# Altium footprint library BLE.PcbLib: 57 footprints (part 3 of 4)
Each footprint in its own frame and in the unit in brackets; x right, y up, seen from the top. Pads: shape width x height; smd on the part's side, far side on the other; paste and mask are expansions set on the pad; w line width, h text height; cw(c..) or ccw(c..) is an arc to the next point about the centre after c.
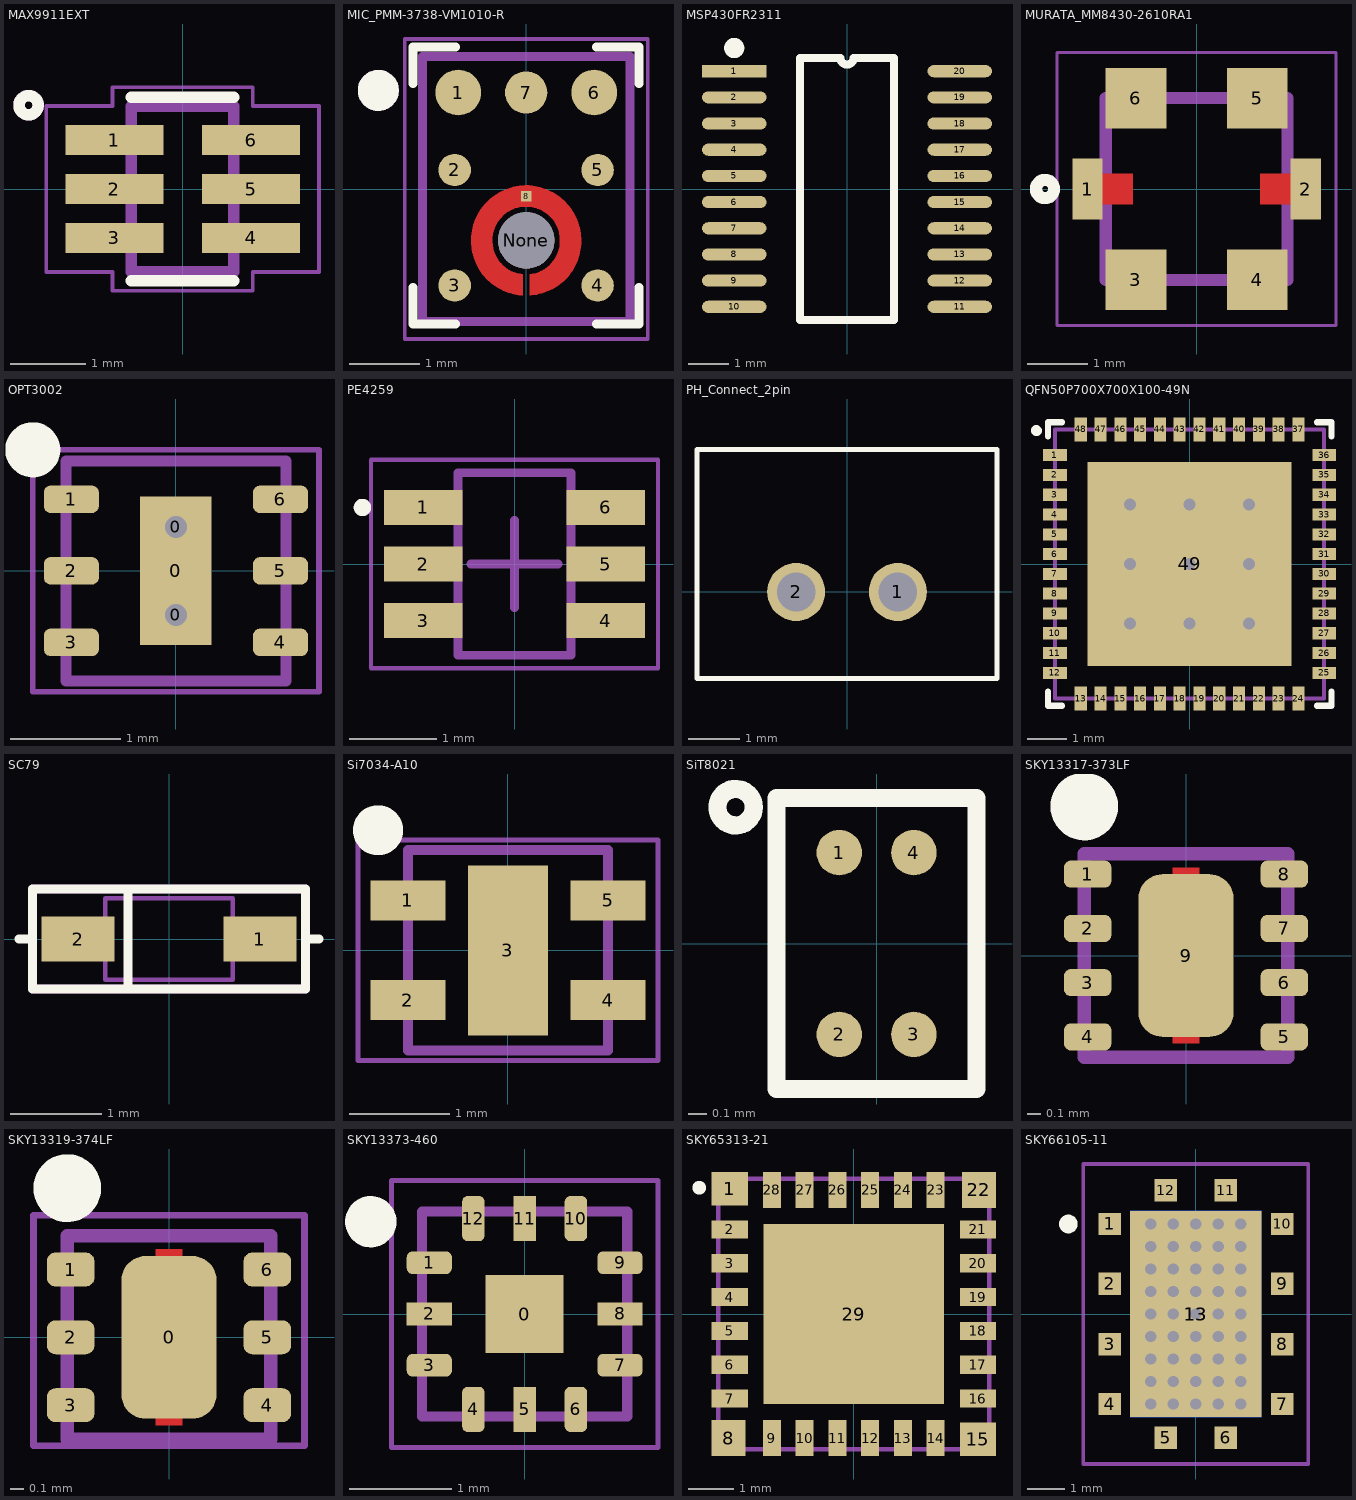
[diagram p2: the footprints below, top view; thin cyan lines are the x and y axes]

## MAX9911EXT [mm]
pads (6):
  rect 1.3x0.4 smd: 1(-0.905,0.65) 2(-0.905,0) 3(-0.905,-0.65) 4(0.91,-0.65) 5(0.91,0) 6(0.91,0.65)
Top Overlay:
  lines w0.152: -0.68,-1.219 0.68,-1.219 ; -0.68,1.219 0.68,1.219 ; -2.044,0.985 ccw(c-2.044,1.112) -2.044,1.239 ccw(c-2.044,1.112) -2.044,0.985
Mechanical 13:
  lines w0.152: -2.044,0.985 ccw(c-2.044,1.112) -2.044,1.239 ; -2.044,0.985 cw(c-2.044,1.112) -2.044,1.239 ; -2.044,0.985 ccw(c-2.044,1.112) -2.044,1.239 ; -2.044,0.985 cw(c-2.044,1.112) -2.044,1.239 ; -0.68,-1.1 0.68,-1.1 ; -0.68,-1.1 -0.68,1.1 ; -0.68,-1.1 0.68,-1.1 ; -0.68,-1.1 -0.68,1.1 ; -0.68,1.1 0.68,1.1 ; -0.68,1.1 0.68,1.1 ; 0.68,-1.1 0.68,1.1 ; 0.68,-1.1 0.68,1.1
Mechanical 15:
  lines w0.05: -1.81,-1.1 -1.81,1.1 -0.93,1.1 -0.93,1.35 0.93,1.35 0.93,1.1 1.81,1.1 1.81,-1.1 0.93,-1.1 0.93,-1.35 -0.93,-1.35 -0.93,-1.1 -1.81,-1.1

## MIC_PMM-3738-VM1010-R [mm]
pads (9):
  round 0.65 smd: 1(-0.965,1.37) 6(0.965,1.37)
  round 0.46 smd: 2(-1.015,0.27) 3(-1.015,-1.37) 4(1.015,-1.37) 5(1.015,0.27)
  round 0.6 smd: 7(0,1.37)
  rect 0.15x0.15 smd: 8(0,-0.1)
  round 0.8 hole 0.8 unplated: None(0,-0.73)
Top Layer:
  region: 257 vertices and 0 holes, not listed, extent -0.78,-1.51 0.78,0.05
Top Overlay:
  circle w0.3: c-2.1,1.4 r0.141
  lines w0.127: -1.605,-1.4 -1.605,-1.915 -1,-1.915 ; -1.605,1.5 -1.605,2.015 -1,2.015 ; 1,-1.915 1.605,-1.915 1.605,-1.4 ; 1,2.015 1.605,2.015 1.605,1.5
Top Paste:
  drawing of 1 lines, arcs and shapes, not listed
Top Solder:
  drawing of 2 lines, arcs and shapes, not listed
Mechanical 13:
  circle w0.3: c-2.1,1.4 r0.141
  circle w0.3: c-2.1,1.4 r0.141
  lines w0.127: -1.475,-1.88 -1.475,1.88 ; -1.475,-1.88 1.475,-1.88 ; -1.475,-1.88 -1.475,1.88 ; -1.475,-1.88 1.475,-1.88 ; -1.475,1.88 1.475,1.88 ; -1.475,1.88 1.475,1.88 ; 1.475,-1.88 1.475,1.88 ; 1.475,-1.88 1.475,1.88
Mechanical 15:
  lines w0.05: -1.725,-2.13 1.725,-2.13 1.725,2.13 -1.725,2.13 -1.725,-2.13

## MSP430FR2311 [mm]
pads (20):
  rect 1.6x0.3 smd: 1(-2.8,2.925)
  oval 1.6x0.3 smd: 2(-2.8,2.275) 3(-2.8,1.625) 4(-2.8,0.975) 5(-2.8,0.325) 6(-2.8,-0.325) 7(-2.8,-0.975) 8(-2.8,-1.625) 9(-2.8,-2.275) 10(-2.8,-2.925) 11(2.8,-2.925) 12(2.8,-2.275) 13(2.8,-1.625) 14(2.8,-0.975) 15(2.8,-0.325) 16(2.8,0.325) 17(2.8,0.975) 18(2.8,1.625) 19(2.8,2.275) 20(2.8,2.925)
Top Overlay:
  circle w0.25: c-2.8,3.5 r0.125
  lines w0.2: -1.165,-3.25 1.165,-3.25 1.165,3.25 0.162,3.25 cw(c0,3.25) -0.162,3.25 -1.165,3.25 -1.165,-3.25
3D body: height 1.1, standoff 0, extent -2.222,-3.302 2.223,3.302

## MURATA_MM8430-2610RA1 [mm]
pads (6):
  rect 0.5x1 smd mask+0.127: 1(-1.8,0) 2(1.8,0)
  rect 1x1 smd: 3(-1,-1.5) 4(1,-1.5) 5(1,1.5) 6(-1,1.5)
Top Layer:
  region: 1.051,-0.249 1.051,0.248 1.602,0.248 1.602,-0.249
  region: -1.602,-0.252 -1.602,0.252 -1.052,0.252 -1.052,-0.252
Top Overlay:
  circle w0.2: c-2.5,0 r0.15
Top Paste:
  region: 1.751,0.249 1.751,-0.249 1.151,-0.249 1.151,0.249
  region: -1.753,-0.253 -1.753,0.252 -1.152,0.252 -1.152,-0.253
  region: 0.501,1.001 0.501,1.75 1.5,1.75 1.5,1.001
  region: -1.5,1 -1.5,1.752 -0.502,1.752 -0.502,1
  region: 0.499,-1.751 0.499,-1.002 1.502,-1.002 1.502,-1.751
  region: -1.503,-1.753 -1.503,-1 -0.5,-1 -0.5,-1.753
Top Solder:
  region: 0.501,1.001 0.501,2 1.5,2 1.5,1.001
  region: -1.501,0.999 -1.501,2.003 -0.503,2.003 -0.503,0.999
  region: -1.82,-0.252 -1.82,0.252 -1.05,0.252 -1.05,-0.252
  region: 1.05,-0.249 1.05,0.25 1.88,0.25 1.88,-0.249
  region: 0.499,-2.001 0.499,-1.002 1.502,-1.002 1.502,-2.001
  region: -1.501,-2.001 -1.501,-1 -0.5,-1 -0.5,-2.001
Mechanical 13:
  lines w0.05: -2.3,-2.25 -2.3,2.25 2.3,2.25 2.3,-2.25 -2.3,-2.25
  lines w0.2: -1.5,-1.5 1.5,-1.5 1.5,1.5 -1.5,1.5 -1.5,-1.5
3D body: height 1.2, standoff 0, extent -1.499,-1.499 1.499,1.499

## OPT3002 [mm]
pads (9):
  round 0.2 hole 0.2: 0(0,-0.4) 0(0,0.4)
  rect 0.65x1.35 smd mask+0.07: 0(0,0)
  rrect50% 0.5x0.25 smd mask+0.07: 1(-0.95,0.65) 2(-0.95,0) 3(-0.95,-0.65) 4(0.95,-0.65) 5(0.95,0) 6(0.95,0.65)
Top Overlay:
  circle w0.25: c-1.3,1.1 r0.125
Mechanical 13:
  lines w0.1: -1,-1 1,-1 1,1 -1,1 -1,-1
Mechanical 15:
  lines w0.05: -1.3,-1.1 1.3,-1.1 1.3,1.1 -1.3,1.1 -1.3,-1.1
3D body: height 1.1, standoff 0, extent -1,-1 1,1

## PE4259 [mm] "Chip Array, 6-Leads, Body 1.6x0.8mm, Pitch 0.5mm"
height 0.6
pads (6):
  rect 0.9x0.4 smd: 1(-1.05,0.65) 2(-1.05,0) 3(-1.05,-0.65) 4(1.05,-0.65) 5(1.05,0) 6(1.05,0.65)
Top Overlay:
  circle w0.1: c-1.75,0.65 r0.05
Mechanical 13:
  lines w0.1: -0.65,-1.05 -0.65,1.05 0.65,1.05 0.65,-1.05 -0.65,-1.05
Mechanical 15:
  lines w0.05: -1.65,-1.2 1.65,-1.2 1.65,1.2 -1.65,1.2 -1.65,-1.2
  lines w0.1: -0.5,0 0.5,0 ; 0,-0.5 0,0.5
3D body: height 0.6, standoff 0, extent -0.65,-1.05 0.65,1.05

## PH_Connect_2pin [mil] "CONN HEADER PH TOP 2POS 2MM"
pads (2):
  round 45 hole 30: 1(39.37,0) 2(-39.37,0)
Top Overlay:
  lines w3.94: -116.14,-66.93 116.14,-66.93 116.14,110.24 -116.14,110.24 -116.14,-66.93

## QFN50P700X700X100-49N [mm]
pads (49):
  rect 0.6x0.305 smd: 1(-3.4,2.75) 2(-3.4,2.25) 3(-3.4,1.75) 4(-3.4,1.25) 5(-3.4,0.75) 6(-3.4,0.25) 7(-3.4,-0.25) 8(-3.4,-0.75) 9(-3.4,-1.25) 10(-3.4,-1.75) 11(-3.4,-2.25) 12(-3.4,-2.75) 25(3.4,-2.75) 26(3.4,-2.25) 27(3.4,-1.75) 28(3.4,-1.25) 29(3.4,-0.75) 30(3.4,-0.25) 31(3.4,0.25) 32(3.4,0.75) 33(3.4,1.25) 34(3.4,1.75) 35(3.4,2.25) 36(3.4,2.75)
  rect 0.305x0.6 smd: 13(-2.75,-3.4) 14(-2.25,-3.4) 15(-1.75,-3.4) 16(-1.25,-3.4) 17(-0.75,-3.4) 18(-0.25,-3.4) 19(0.25,-3.4) 20(0.75,-3.4) 21(1.25,-3.4) 22(1.75,-3.4) 23(2.25,-3.4) 24(2.75,-3.4) 37(2.75,3.4) 38(2.25,3.4) 39(1.75,3.4) 40(1.25,3.4) 41(0.75,3.4) 42(0.25,3.4) 43(-0.25,3.4) 44(-0.75,3.4) 45(-1.25,3.4) 46(-1.75,3.4) 47(-2.25,3.4) 48(-2.75,3.4)
  rect 5.15x5.15 smd mask+0.178: 49(0,0)
via -1.5,-1.5 diameter 0.559 hole 0.305
via 0,-1.5 diameter 0.559 hole 0.305
via 1.5,-1.5 diameter 0.559 hole 0.305
via 1.5,1.5 diameter 0.559 hole 0.305
via 1.5,0 diameter 0.559 hole 0.305
via -1.5,1.5 diameter 0.559 hole 0.305
via 0,1.5 diameter 0.559 hole 0.305
via -1.5,0 diameter 0.559 hole 0.305
via 0,0 diameter 0.559 hole 0.305
Top Overlay:
  circle w0.254: c-3.87,3.37 r0.01
  lines w0.152: -3.581,-3.226 -3.581,-3.581 -3.226,-3.581 ; -3.581,3.226 -3.581,3.581 -3.226,3.581 ; 3.226,-3.581 3.581,-3.581 3.581,-3.226 ; 3.226,3.581 3.581,3.581 3.581,3.226
Mechanical 13:
  lines w0.1: -3.4,-3.4 -3.4,3.4 3.4,3.4 3.4,-3.4 -3.4,-3.4
3D body: height 0.8, standoff 0, extent -3.4,-3.4 3.4,3.4

## SC79 [mm] "Surface Mount; Body 1.6 x 0.8 mm (LxW typ)"
height 0.8
pads (2):
  rect 0.8x0.5 smd: 1(1,0) 2(-1,0)
Top Overlay:
  lines w0.1: -1.65,0 -1.5,0 ; -0.45,-0.55 -0.45,0.55 ; 1.5,0 1.65,0 ; -1.5,-0.55 -1.5,0.55 1.5,0.55 1.5,-0.55 -1.5,-0.55
Mechanical 13:
  lines w0.051: -0.7,-0.45 0.7,-0.45 0.7,0.45 -0.7,0.45 -0.7,-0.45
Mechanical 15:
  lines w0.1: -1.5,-0.55 1.5,-0.55 1.5,0.55 -1.5,0.55 -1.5,-0.55
3D body: height 0.8, standoff 0, extent -0.7,-0.45 0.7,0.45

## Si7034-A10 [mm]
pads (5):
  rect 0.75x0.4 smd: 1(-1,0.5) 2(-1,-0.5) 4(1,-0.5) 5(1,0.5)
  rect 0.8x1.7 smd: 3(0,0)
Top Overlay:
  circle w0.25: c-1.3,1.2 r0.125
Mechanical 13:
  lines w0.1: -1,-1 -1,1 1,1 1,-1 -1,-1
Mechanical 15:
  lines w0.05: -1.5,-1.1 -1.5,1.1 1.5,1.1 1.5,-1.1 -1.5,-1.1
3D body: height 1.1, standoff 0, extent -1,-1 1,1

## SiT8021 [mm] "CRYSTAL, 1.5mm x 0.8mm,  4Pin"
height 0.85
pads (4):
  round 0.25 smd mask+0.076: 1(-0.205,0.5) 2(-0.205,-0.5) 3(0.205,-0.5) 4(0.205,0.5)
Top Overlay:
  circle w0.1: c-0.775,0.75 r0.1
  lines w0.1: -0.55,-0.8 0.55,-0.8 0.55,0.8 -0.55,0.8 -0.55,-0.8

## SKY13317-373LF [mm]
pads (9):
  rrect50% 0.35x0.2 smd mask+0.08: 1(-0.725,0.6) 2(-0.725,0.2) 3(-0.725,-0.2) 4(-0.725,-0.6) 5(0.725,-0.6) 6(0.725,-0.2) 7(0.725,0.2) 8(0.725,0.6)
  rrect50% 0.7x1.2 smd mask+0.08: 9(0,0)
Top Layer:
  rectangle: -0.1,-0.65 0.1,-0.55
  rectangle: -0.1,0.55 0.1,0.65
Top Overlay:
  circle w0.25: c-0.75,1.1 r0.125
Mechanical 13:
  lines w0.1: -0.75,-0.75 0.75,-0.75 0.75,0.75 -0.75,0.75 -0.75,-0.75
3D body: height 0.5, standoff 0, extent -0.75,-0.75 0.7,0.75

## SKY13319-374LF [mm]
pads (7):
  rrect50% 0.7x1.2 smd mask+0.08: 0(0,0)
  rrect50% 0.35x0.25 smd mask+0.08: 1(-0.725,0.5) 2(-0.725,0) 3(-0.725,-0.5) 4(0.725,-0.5) 5(0.725,0) 6(0.725,0.5)
Top Layer:
  rectangle: -0.1,-0.65 0.1,-0.55
  rectangle: -0.1,0.55 0.1,0.65
Top Overlay:
  circle w0.25: c-0.75,1.1 r0.125
Mechanical 13:
  lines w0.1: -0.75,-0.75 0.75,-0.75 0.75,0.75 -0.75,0.75 -0.75,-0.75
Mechanical 15:
  lines w0.05: -1,-0.8 1,-0.8 1,0.9 -1,0.9 -1,-0.8
3D body: height 0.5, standoff 0, extent -0.75,-0.75 0.7,0.75

## SKY13373-460 [mm]
pads (13):
  rect 0.76x0.76 smd: 0(0,0)
  rrect50% 0.44x0.22 smd: 1(-0.93,0.5) 3(-0.93,-0.5) 7(0.93,-0.5) 9(0.93,0.5)
  rect 0.44x0.22 smd: 2(-0.93,0) 8(0.93,0)
  rrect50% 0.22x0.44 smd: 4(-0.5,-0.93) 6(0.5,-0.93) 10(0.5,0.93) 12(-0.5,0.93)
  rect 0.22x0.44 smd: 5(0,-0.93) 11(0,0.93)
Top Overlay:
  circle w0.25: c-1.5,0.9 r0.125
Mechanical 13:
  lines w0.1: -1,-1 1,-1 1,1 -1,1 -1,-1
Mechanical 15:
  lines w0.05: -1.3,-1.3 1.3,-1.3 1.3,1.3 -1.3,1.3 -1.3,-1.3
3D body: height 1.1, standoff 0, extent -1,-1 1,1

## SKY65313-21 [mm]
pads (29):
  rect 0.8x0.75 smd: 1(-2.75,2.775) 15(2.75,-2.775)
  rect 0.8x0.4 smd: 2(-2.75,1.875) 3(-2.75,1.125) 4(-2.75,0.375) 5(-2.75,-0.375) 6(-2.75,-1.125) 7(-2.75,-1.875) 16(2.75,-1.875) 17(2.75,-1.125) 18(2.75,-0.375) 19(2.75,0.375) 20(2.75,1.125) 21(2.75,1.875)
  rect 0.75x0.8 smd: 8(-2.775,-2.75) 22(2.775,2.75)
  rect 0.4x0.8 smd: 9(-1.813,-2.75) 10(-1.088,-2.75) 11(-0.363,-2.75) 12(0.363,-2.75) 13(1.088,-2.75) 14(1.813,-2.75) 23(1.813,2.75) 24(1.088,2.75) 25(0.363,2.75) 26(-0.363,2.75) 27(-1.088,2.75) 28(-1.813,2.75)
  rect 4x4 smd: 29(0,0)
Top Overlay:
  circle w0.2: c-3.425,2.8 r0.05
Mechanical 13:
  lines w0.1: -3,-3 3,-3 3,3 -3,3 -3,-3
3D body: height 0.5, standoff 0, extent -3,-3 3,3

## SKY66105-11 [mm]
pads (14):
  rect 0.6x0.6 smd mask+0.05: 1(-2.3,2.4) 2(-2.3,0.8) 3(-2.3,-0.8) 4(-2.3,-2.4) 5(-0.8,-3.3) 6(0.8,-3.3) 7(2.3,-2.4) 8(2.3,-0.8) 9(2.3,0.8) 10(2.3,2.4) 11(0.8,3.3) 12(-0.8,3.3)
  rect 3.5x5.5 smd mask+0.05: 13(0,0)
  rect 3.5x5.5 smd far side mask+0.05: 13(0,0)
via 0,-2.4 diameter 0.3 hole 0.3
via -0.6,-2.4 diameter 0.3 hole 0.3
via -1.2,-2.4 diameter 0.3 hole 0.3
via 0.6,-2.4 diameter 0.3 hole 0.3
via 1.2,-2.4 diameter 0.3 hole 0.3
via 0,-1.8 diameter 0.3 hole 0.3
via -0.6,-1.8 diameter 0.3 hole 0.3
via -1.2,-1.8 diameter 0.3 hole 0.3
via 0.6,-1.8 diameter 0.3 hole 0.3
via 1.2,-1.8 diameter 0.3 hole 0.3
via 0,-1.2 diameter 0.3 hole 0.3
via -0.6,-1.2 diameter 0.3 hole 0.3
via -1.2,-1.2 diameter 0.3 hole 0.3
via 0.6,-1.2 diameter 0.3 hole 0.3
via 1.2,-1.2 diameter 0.3 hole 0.3
via 0,-0.6 diameter 0.3 hole 0.3
via -0.6,-0.6 diameter 0.3 hole 0.3
via -1.2,-0.6 diameter 0.3 hole 0.3
via 0.6,-0.6 diameter 0.3 hole 0.3
via 1.2,-0.6 diameter 0.3 hole 0.3
via 0,2.4 diameter 0.3 hole 0.3
via -0.6,2.4 diameter 0.3 hole 0.3
via -1.2,2.4 diameter 0.3 hole 0.3
via 0.6,2.4 diameter 0.3 hole 0.3
via 1.2,2.4 diameter 0.3 hole 0.3
via 0,1.8 diameter 0.3 hole 0.3
via -0.6,1.8 diameter 0.3 hole 0.3
via -1.2,1.8 diameter 0.3 hole 0.3
via 0.6,1.8 diameter 0.3 hole 0.3
via 1.2,1.8 diameter 0.3 hole 0.3
via 0,1.2 diameter 0.3 hole 0.3
via -0.6,1.2 diameter 0.3 hole 0.3
via -1.2,1.2 diameter 0.3 hole 0.3
via 0.6,1.2 diameter 0.3 hole 0.3
via 1.2,1.2 diameter 0.3 hole 0.3
via 0,0.6 diameter 0.3 hole 0.3
via -0.6,0.6 diameter 0.3 hole 0.3
via -1.2,0.6 diameter 0.3 hole 0.3
via 0.6,0.6 diameter 0.3 hole 0.3
via 1.2,0.6 diameter 0.3 hole 0.3
via 1.2,0 diameter 0.3 hole 0.3
via 0.6,0 diameter 0.3 hole 0.3
via -1.2,0 diameter 0.3 hole 0.3
via -0.6,0 diameter 0.3 hole 0.3
via 0,0 diameter 0.3 hole 0.3
Top Overlay:
  circle w0.25: c-3.4,2.4 r0.125
Mechanical 13:
  lines w0.1: -3,-4 3,-4 3,4 -3,4 -3,-4
3D body: height 0.5, standoff 0, extent -3,-4 3,4